# Altium schematic symbol library Ferrite Beads and Chips.SchLib: 2 symbols
Pins are listed as number, name and electrical type; pins without a type are passive.

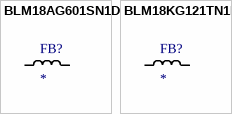
[diagram p0: symbols BLM18AG601SN1D to BLM18KG121TN1D]

## BLM18AG601SN1D
designator FB?
FERRITE BEAD 600 OHM 0603 1LN; Supplier 1: Digi-Key; Supplier 2: Farnell; Supplier 3: Mouser; Supplier 4: Arrow Electronics; Supplier Part Number 1: 490-1014-1-ND; Supplier Part Number 2: 1515679; Supplier Part Number 3: 81-BLM11A601S; Supplier Part Number 4: BLM18AG601SN1D
footprint MURATA_FB-0603
pins: 1, 2

## BLM18KG121TN1D
designator FB?
FERRITE BEAD 120 OHM 0603 1LN; Supplier 1: Digi-Key; Supplier 2: Farnell; Supplier 3: Mouser; Supplier Part Number 1: 490-5254-6-ND; Supplier Part Number 2: 1781089; Supplier Part Number 3: 81-BLM18KG121TN1D
footprint MURATA_FB-0603
pins: 1, 2